# EAGLE library part MAX3232 (library diode-20CJQ030)
max3232CD or max3232ID digikey parts: 296-13094-1-ND and 296-13098-1-ND respectively ~$2.60 (both 16pin soic narrow, but with different temperature grades) Texas Instruments 3V to 5.5V 250kbit multichannel RS-232 line driver/receiver with +-15kV ESD protection available as TI samples and digikey carries them as well, available in SOIC16 narrow/wide package and TSSOP as well. pin compatible with maxim-ic max232 and max3232 parts
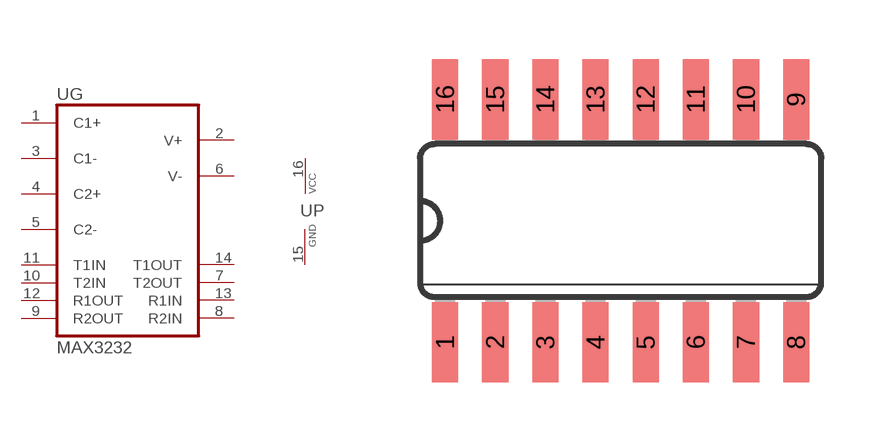
[diagram p25: symbol with the pads of SO16; footprint SO16]

Designator prefix U; gates G=MAX232 P=VCC-GND

## MAX3232S  [SO16]
1  G:C1+
2  G:V+
3  G:C1-
4  G:C2+
5  G:C2-
6  G:V-
7  G:T2OUT  out
8  G:R2IN  in
9  G:R2OUT  out
10  G:T2IN  in
11  G:T1IN  in
12  G:R1OUT  out
13  G:R1IN  in
14  G:T1OUT  out
15  P:GND  pwr
16  P:VCC  pwr

## Footprint SO16 (pad centres in mm)
Small Outline Package
smd 0.66 x 2.032: 1 -4.445,-3.073; 2 -3.175,-3.073; 3 -1.905,-3.073; 4 -0.635,-3.073; 5 0.635,-3.073; 6 1.905,-3.073; 7 3.175,-3.073; 8 4.445,-3.073; 9 4.445,3.073; 10 3.175,3.073; 11 1.905,3.073; 12 0.635,3.073; 13 -0.635,3.073; 14 -1.905,3.073; 15 -3.175,3.073; 16 -4.445,3.073